# Altium integrated library ST Video On-Screen Display.IntLib: 12 symbols
Pins are listed as number, name and electrical type; pins without a type are passive.

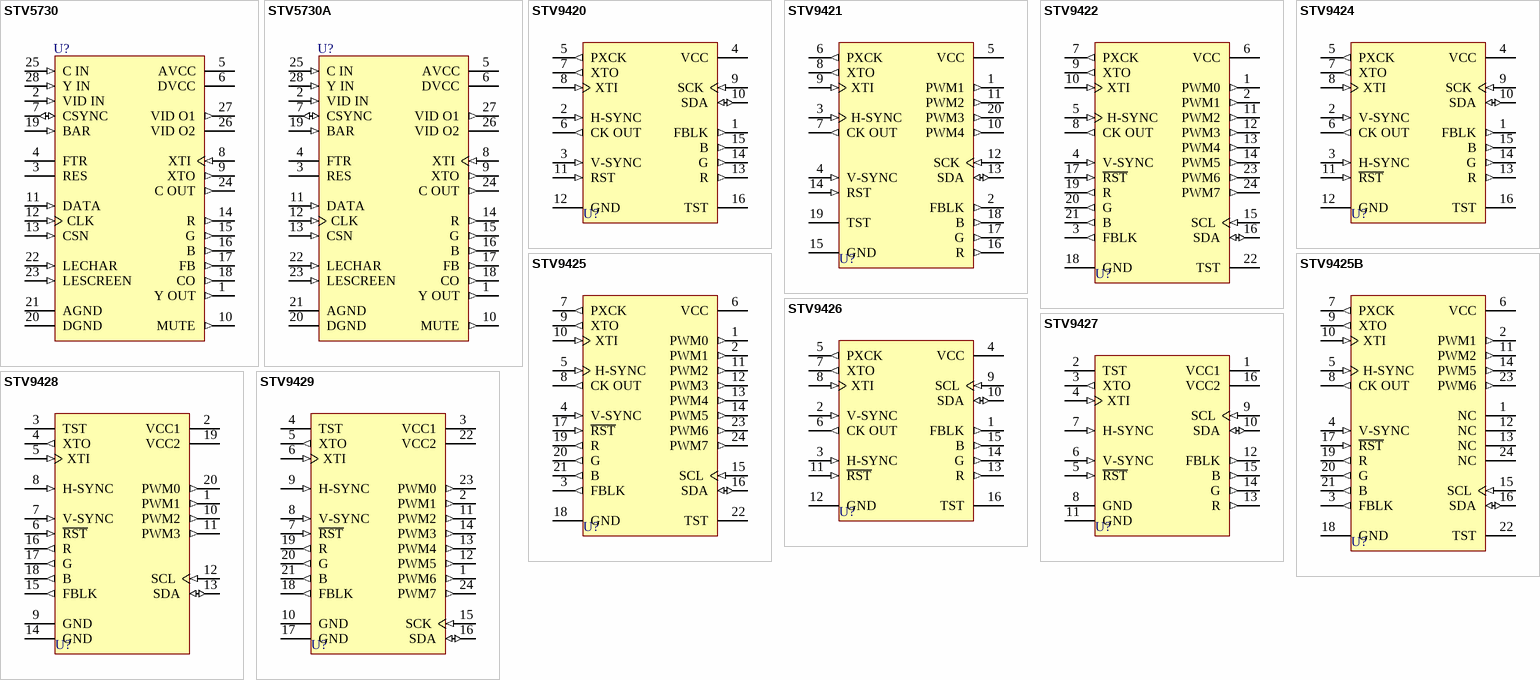
[diagram p0: symbols STV5730 to STV9429]

## STV5730
designator U?
Multistandard On-Screen Display for VCR, PAY-TV, Satellite Receiver; Published: 24-Aug-2001; LatestRevisionDate: 17-Jul-2002; LatestRevisionNote: Re-released for DXP Platform.; DatasheetDocument: Oct-1994; PackageDocument: Jul-2001; PackageReference: SO28; Publisher: Altium Limited; Code_IPC: SO28W
footprint SO28 (Small Outline, Plastic; 28 Leads; Body Width 7.5 mm; Pitch 1.27 mm)
pins: 1 Y OUT (out), 2 VID IN (in), 3 RES, 4 FTR, 5 AVCC (power), 6 DVCC (power), 7 CSYNC (io), 8 XTI (in), 9 XTO (out), 10 MUTE (out), 11 DATA (in), 12 CLK (in), 13 CSN (in), 14 R (out), 15 G (out), 16 B (out), 17 FB (out), 18 CO (out), 19 BAR (in), 20 DGND (power), 21 AGND (power), 22 LECHAR (in), 23 LESCREEN (in), 24 C OUT (out), 25 C IN (in), 26 VID O2 (hiz), 27 VID O1 (out), 28 Y IN (in)

## STV5730A
designator U?
Multistandard On-Screen Display for VCR, PAY-TV, Satellite Receiver; Published: 24-Aug-2001; LatestRevisionDate: 17-Jul-2002; LatestRevisionNote: Re-released for DXP Platform.; DatasheetDocument: Feb-1996; PackageDocument: Jul-2001; PackageReference: SO28; Publisher: Altium Limited; Code_IPC: SO28W
footprint SO28 (Small Outline, Plastic; 28 Leads; Body Width 7.5 mm; Pitch 1.27 mm)
pins: 1 Y OUT (out), 2 VID IN (in), 3 RES, 4 FTR, 5 AVCC (power), 6 DVCC (power), 7 CSYNC (io), 8 XTI (in), 9 XTO (out), 10 MUTE (out), 11 DATA (in), 12 CLK (in), 13 CSN (in), 14 R (out), 15 G (out), 16 B (out), 17 FB (out), 18 CO (out), 19 BAR (in), 20 DGND (power), 21 AGND (power), 22 LECHAR (in), 23 LESCREEN (in), 24 C OUT (out), 25 C IN (in), 26 VID O2 (hiz), 27 VID O1 (out), 28 Y IN (in)

## STV9420
designator U?
Multisync On-Screen Display for Monitor; Note: Pin number 16 (TST) is Reserved (grounded in normal operation).; Published: 24-Aug-2001; LatestRevisionDate: 17-Jul-2002; LatestRevisionNote: Re-released for DXP Platform.; DatasheetDocument: Oct-1995; PackageDocument: Apr-1996; PackageReference: DIP16; Publisher: Altium Limited
footprint DIP16 (DIP; 16 Leads; Row Spacing 7.62 mm; Pitch 2.54 mm)
pins: 1 FBLK (out), 2 H-SYNC (in), 3 V-SYNC (in), 4 VCC (power), 5 PXCK (out), 6 CK OUT (out), 7 XTO (out), 8 XTI (in), 9 SCK (in), 10 SDA (io), 11 RST (in), 12 GND (power), 13 R (out), 14 G (out), 15 B (out), 16 TST

## STV9421
designator U?
Multisync On-Screen Display for Monitor; Note: Pin number 19 (TST) is Reserved (grounded in normal operation).; Published: 24-Aug-2001; LatestRevisionDate: 17-Jul-2002; LatestRevisionNote: Re-released for DXP Platform.; DatasheetDocument: Oct-1995; PackageDocument: Jun-1998; PackageReference: DIP20; Publisher: Altium Limited; Code_JEDEC: MS-015-AE
footprint DIP20 (DIP; 20 Leads; Row Spacing 7.62 mm; Pitch 2.54 mm)
pins: 1 PWM1 (out), 2 FBLK (out), 3 H-SYNC (in), 4 V-SYNC (in), 5 VCC (power), 6 PXCK (out), 7 CK OUT (out), 8 XTO (out), 9 XTI (in), 10 PWM4 (out), 11 PWM2 (out), 12 SCK (in), 13 SDA (io), 14 RST (in), 15 GND (power), 16 R (out), 17 G (out), 18 B (out), 19 TST, 20 PWM3 (out)

## STV9422
designator U?
Multisync On-Screen Display for Monitor; Note: Pin number 22 (TST) is Reserved (grounded in normal operation).; Published: 24-Aug-2001; LatestRevisionDate: 17-Jul-2002; LatestRevisionNote: Re-released for DXP Platform.; DatasheetDocument: Oct-1995; PackageDocument: Nov-1999; PackageReference: PSDIP24; Publisher: Altium Limited
footprint PSDIP24 (DIP; 24 Leads; Row Spacing 7.62 mm; Pitch 1.778 mm)
pins: 1 PWM0 (out), 2 PWM1 (out), 3 FBLK (out), 4 V-SYNC (in), 5 H-SYNC (in), 6 VCC (power), 7 PXCK (out), 8 CK OUT (out), 9 XTO (out), 10 XTI (in), 11 PWM2 (out), 12 PWM3 (out), 13 PWM4 (out), 14 PWM5 (out), 15 SCL (in), 16 SDA (io), 17 ~{RST} (in), 18 GND (power), 19 R (out), 20 G (out), 21 B (out), 22 TST, 23 PWM6 (out), 24 PWM7 (out)

## STV9424
designator U?
Multisync On-Screen Display for Monitor; Note: Pin number 16 (TST) is Reserved (grounded in normal operation).; Published: 24-Aug-2001; LatestRevisionDate: 17-Jul-2002; LatestRevisionNote: Re-released for DXP Platform.; DatasheetDocument: Oct-1995; PackageDocument: Apr-1996; PackageReference: DIP16; Publisher: Altium Limited
footprint DIP16 (DIP; 16 Leads; Row Spacing 7.62 mm; Pitch 2.54 mm)
pins: 1 FBLK (out), 2 V-SYNC (in), 3 H-SYNC (in), 4 VCC (power), 5 PXCK (out), 6 CK OUT (out), 7 XTO (out), 8 XTI (in), 9 SCK (in), 10 SDA (io), 11 ~{RST} (in), 12 GND (power), 13 R (out), 14 G (out), 15 B (out), 16 TST

## STV9425
designator U?
Multisync On-Screen Display for Monitor; Note: Pin number 22 (TST) is Reserved (grounded in normal operation).; Published: 24-Aug-2001; LatestRevisionDate: 17-Jul-2002; LatestRevisionNote: Re-released for DXP Platform.; DatasheetDocument: Dec-1997; PackageDocument: Nov-1999; PackageReference: PSDIP24; Publisher: Altium Limited
footprint PSDIP24 (DIP; 24 Leads; Row Spacing 7.62 mm; Pitch 1.778 mm)
pins: 1 PWM0 (out), 2 PWM1 (out), 3 FBLK (out), 4 V-SYNC (in), 5 H-SYNC (in), 6 VCC (power), 7 PXCK (out), 8 CK OUT (out), 9 XTO (out), 10 XTI (in), 11 PWM2 (out), 12 PWM3 (out), 13 PWM4 (out), 14 PWM5 (out), 15 SCL (in), 16 SDA (io), 17 ~{RST} (in), 18 GND (power), 19 R (out), 20 G (out), 21 B (out), 22 TST, 23 PWM6 (out), 24 PWM7 (out)

## STV9425B
designator U?
Multisync On-Screen Display for Monitor; Note: Pin number 22 (TST) is Reserved (grounded in normal operation).; Published: 24-Aug-2001; LatestRevisionDate: 17-Jul-2002; LatestRevisionNote: Re-released for DXP Platform.; DatasheetDocument: Dec-1997; PackageDocument: Nov-1999; PackageReference: PSDIP24; Publisher: Altium Limited
footprint PSDIP24 (DIP; 24 Leads; Row Spacing 7.62 mm; Pitch 1.778 mm)
pins: 1 NC, 2 PWM1 (out), 3 FBLK (out), 4 V-SYNC (in), 5 H-SYNC (in), 6 VCC (power), 7 PXCK (out), 8 CK OUT (out), 9 XTO (out), 10 XTI (in), 11 PWM2 (out), 12 NC, 13 NC, 14 PWM5 (out), 15 SCL (in), 16 SDA (io), 17 ~{RST} (in), 18 GND (power), 19 R (out), 20 G (out), 21 B (out), 22 TST, 23 PWM6 (out), 24 NC

## STV9426
designator U?
Multisync On-Screen Display for Monitor; Note: Pin number 16 (TST) is Reserved (grounded in normal operation).; Published: 24-Aug-2001; LatestRevisionDate: 17-Jul-2002; LatestRevisionNote: Re-released for DXP Platform.; DatasheetDocument: Dec-1997; PackageDocument: Apr-1996; PackageReference: DIP16; Publisher: Altium Limited
footprint DIP16 (DIP; 16 Leads; Row Spacing 7.62 mm; Pitch 2.54 mm)
pins: 1 FBLK (out), 2 V-SYNC (in), 3 H-SYNC (in), 4 VCC (power), 5 PXCK (out), 6 CK OUT (out), 7 XTO (out), 8 XTI (in), 9 SCL (in), 10 SDA (io), 11 ~{RST} (in), 12 GND (power), 13 R (out), 14 G (out), 15 B (out), 16 TST

## STV9427
designator U?
High-Speed Multisync On-Screen Display for Monitor; Note: Pin number 2 (TST) is Reserved (not to be connected).; Published: 24-Aug-2001; LatestRevisionDate: 17-Jul-2002; LatestRevisionNote: Re-released for DXP Platform.; DatasheetDocument: Jun-1998; PackageDocument: Apr-1996; PackageReference: DIP16; Publisher: Altium Limited
footprint DIP16 (DIP; 16 Leads; Row Spacing 7.62 mm; Pitch 2.54 mm)
pins: 1 VCC1 (power), 2 TST, 3 XTO (out), 4 XTI (in), 5 ~{RST} (in), 6 V-SYNC (in), 7 H-SYNC (in), 8 GND (power), 9 SCL (in), 10 SDA (io), 11 GND (power), 12 FBLK (out), 13 R (out), 14 G (out), 15 B (out), 16 VCC2 (power)

## STV9428
designator U?
High-Speed Multisync On-Screen Display for Monitor; Note: Pin number 3 (TST) is Reserved (not to be connected).; Published: 24-Aug-2001; LatestRevisionDate: 17-Jul-2002; LatestRevisionNote: Re-released for DXP Platform.; DatasheetDocument: Jun-1998; PackageDocument: Jun-1998; PackageReference: DIP20; Publisher: Altium Limited; Code_JEDEC: MS-015-AE
footprint DIP20 (DIP; 20 Leads; Row Spacing 7.62 mm; Pitch 2.54 mm)
pins: 1 PWM1 (out), 2 VCC1 (power), 3 TST, 4 XTO (out), 5 XTI (in), 6 ~{RST} (in), 7 V-SYNC (in), 8 H-SYNC (in), 9 GND (power), 10 PWM2 (out), 11 PWM3 (out), 12 SCL (in), 13 SDA (io), 14 GND (power), 15 FBLK (out), 16 R (out), 17 G (out), 18 B (out), 19 VCC2 (power), 20 PWM0 (out)

## STV9429
designator U?
High-Speed Multisync On-Screen Display for Monitor; Note: Pin number 4 (TST) is Reserved (not to be connected).; Published: 24-Aug-2001; LatestRevisionDate: 17-Jul-2002; LatestRevisionNote: Re-released for DXP Platform.; DatasheetDocument: Jun-1998; PackageDocument: Jan-1995; PackageReference: PDIP24; Publisher: Altium Limited
footprint PDIP24 (DIP; 24 Leads; Row Spacing 15.24 mm; Pitch 2.54 mm)
pins: 1 PWM6 (out), 2 PWM1 (out), 3 VCC1 (power), 4 TST, 5 XTO (out), 6 XTI (in), 7 ~{RST} (in), 8 V-SYNC (in), 9 H-SYNC (in), 10 GND (power), 11 PWM2 (out), 12 PWM5 (out), 13 PWM4 (out), 14 PWM3 (out), 15 SCK (in), 16 SDA (io), 17 GND (power), 18 FBLK (out), 19 R (out), 20 G (out), 21 B (out), 22 VCC2 (power), 23 PWM0 (out), 24 PWM7 (out)